# Altium schematic symbol library CON3.SchLib: 1 symbol
Pins are listed as number, name and electrical type; pins without a type are passive.

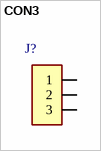
[diagram p0: symbol CON3]

## CON3
designator J?
footprint 3HDR_2mm
pins: 1, 2, 3